# EAGLE library part CONN-D15-FEMALE (library SteveMarple)
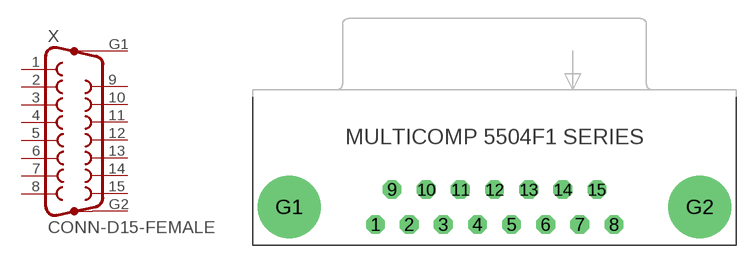
[diagram p45: symbol with the pads of DSUB-5504F1-02-15PIN; footprint DSUB-5504F1-02-15PIN]

Designator prefix X

## CONN-D15-FEMALEMULTICOMP-5504F1  [DSUB-5504F1-02-15PIN]
1  1  pas
2  2  pas
3  3  pas
4  4  pas
5  5  pas
6  6  pas
7  7  pas
8  8  pas
9  9  pas
10  10  pas
11  11  pas
12  12  pas
13  13  pas
14  14  pas
15  15  pas
G1  G1  pas
G2  G2  pas

## Footprint DSUB-5504F1-02-15PIN (pad centres in mm)
drill 1.016 octagon: 1 -9.65,-1.42; 2 -6.925,-1.42; 3 -4.155,-1.42; 4 -1.385,-1.42; 5 1.385,-1.42; 6 4.155,-1.42; 7 6.925,-1.42; 8 9.695,-1.42; 9 -8.31,1.42; 10 -5.54,1.42; 11 -2.77,1.42; 12 0,1.42; 13 2.77,1.42; 14 5.54,1.42; 15 8.31,1.42
drill 3.302 pad 5.08: G1 -16.66,0; G2 16.66,0